# Altium footprint library PACKAGES_SO.PcbLib: 10 footprints
Each footprint in its own frame and in the unit in brackets; x right, y up, seen from the top. Pads: shape width x height; smd on the part's side, far side on the other; paste and mask are expansions set on the pad; w line width, h text height; cw(c..) or ccw(c..) is an arc to the next point about the centre after c.
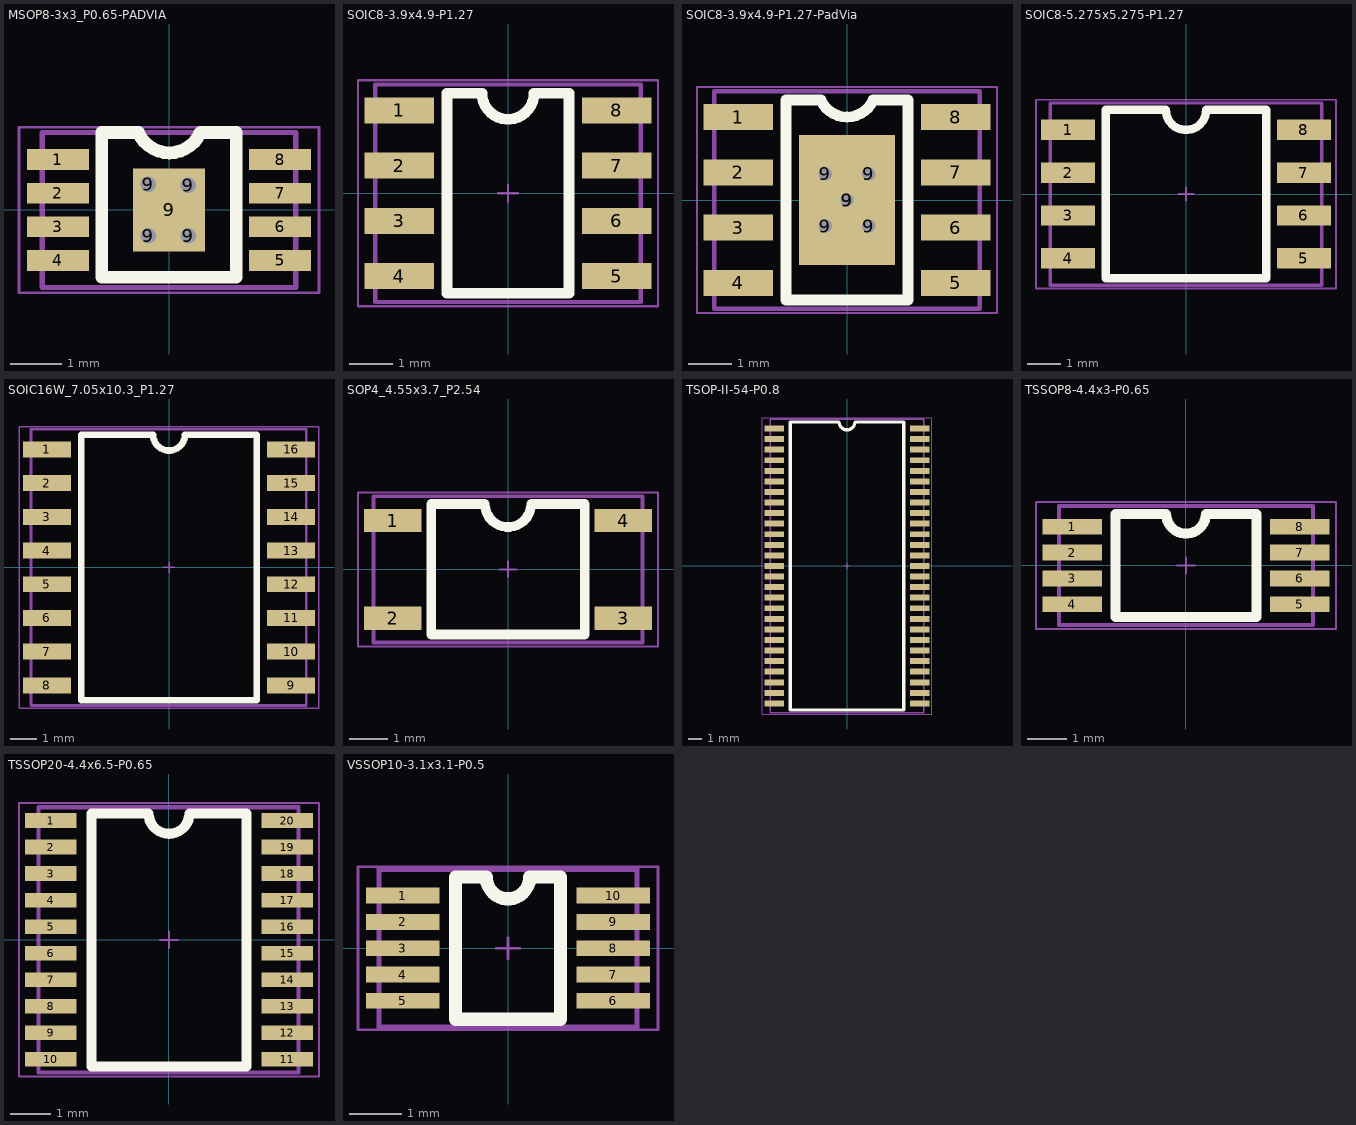
[diagram p0: the footprints below, top view; thin cyan lines are the x and y axes]

## MSOP8-3x3_P0.65-PADVIA [mm]
pads (13):
  rect 1.2x0.4 smd: 1(-2.15,0.975) 2(-2.15,0.325) 3(-2.15,-0.325) 4(-2.15,-0.975) 5(2.15,-0.975) 6(2.15,-0.325) 7(2.15,0.325) 8(2.15,0.975)
  round 0.6 hole 0.3 mask+0: 9(-0.4,-0.5) 9(-0.4,0.5) 9(0.375,-0.5) 9(0.375,0.475)
  rect 1.4x1.6 smd: 9(0,0)
Top Overlay:
  lines w0.25: -1.3,-1.3 1.3,-1.3 1.3,1.5 0.607,1.5 cw(c0.007,1.758) -0.593,1.5 -1.3,1.5 -1.3,-1.3
Mechanical 13:
  lines w0.1: -2.45,-1.5 -2.45,1.5 2.45,1.5 2.45,-1.5 -2.45,-1.5
Mechanical 15:
  lines w0.05: -0.225,0 0.225,0 ; 0,-0.2 0,0.2 ; -2.9,-1.6 2.9,-1.6 2.9,1.6 -2.9,1.6 -2.9,1.15 -2.9,0.95 -2.9,-1.6
3D body "MSOP-8_3x3mm_P0.65mm.step": height 0.95, standoff 0, extent -2.45,-1.5 2.45,1.5

## SOIC8-3.9x4.9-P1.27 [mm]
pads (8):
  rect 1.6x0.6 smd: 1(-2.5,1.905) 2(-2.5,0.635) 3(-2.5,-0.635) 4(-2.5,-1.905) 5(2.5,-1.905) 6(2.5,-0.635) 7(2.5,0.635) 8(2.5,1.905)
Top Overlay:
  lines w0.25: -1.4,-2.3 -1.4,2.3 -0.6,2.3 ccw(c0,2.3) 0.6,2.3 1.4,2.3 1.4,-2.3 -1.4,-2.3
Mechanical 13:
  lines w0.1: -3.05,-2.5 -3.05,2.5 3.05,2.5 3.05,-2.5 -3.05,-2.5
Mechanical 15:
  lines w0.05: -0.225,0 0.225,0 ; 0,-0.2 0,0.2 ; -3.45,-2.6 3.45,-2.6 3.45,2.6 -3.45,2.6 -3.45,-2.6
3D body "SOIC-8_3.9x4.9mm_P1.27mm.step": height 1.75, standoff 0, extent -3,-2.45 3,2.45

## SOIC8-3.9x4.9-P1.27-PadVia [mm]
pads (14):
  rect 1.6x0.6 smd: 1(-2.5,1.905) 2(-2.5,0.635) 3(-2.5,-0.635) 4(-2.5,-1.905) 5(2.5,-1.905) 6(2.5,-0.635) 7(2.5,0.635) 8(2.5,1.905)
  round 0.6 hole 0.3 mask+0: 9(-0.5,-0.6) 9(-0.5,0.6) 9(0,0) 9(0.5,-0.6) 9(0.5,0.6)
  rect 2.2x3 smd: 9(0,0)
Top Overlay:
  lines w0.25: -1.4,-2.3 1.4,-2.3 1.4,2.3 0.6,2.3 cw(c0,2.558) -0.6,2.3 -1.4,2.3 -1.4,-2.3
Mechanical 13:
  lines w0.1: -3.05,-2.5 3.05,-2.5 3.05,2.5 -3.05,2.5 -3.05,-2.5
Mechanical 15:
  lines w0.05: -0.225,0 0.225,0 ; 0,-0.2 0,0.2 ; -3.45,-2.6 -3.45,2.6 3.45,2.6 3.45,-2.6 -3.45,-2.6
3D body "SOIC-8_3.9x4.9mm_P1.27mm.step": height 1.75, standoff 0, extent -3,-2.45 3,2.45

## SOIC8-5.275x5.275-P1.27 [mm]
pads (8):
  rect 1.6x0.6 smd: 1(-3.5,1.905) 2(-3.5,0.635) 3(-3.5,-0.635) 4(-3.5,-1.905) 5(3.5,-1.905) 6(3.5,-0.635) 7(3.5,0.635) 8(3.5,1.905)
Top Overlay:
  lines w0.25: -2.375,-2.5 -2.375,2.5 -0.6,2.5 ccw(c0,2.5) 0.6,2.5 2.375,2.5 2.375,-2.5 -2.375,-2.5
Mechanical 13:
  lines w0.1: -4.025,-2.7 4.025,-2.7 4.025,2.7 -4,2.7 -4.025,2.7 -4.025,-2.7
Mechanical 15:
  lines w0.05: -0.225,0 0.225,0 ; 0,-0.2 0,0.2 ; -4.45,-2.8 4.45,-2.8 4.45,2.8 -4.45,2.8 -4.45,-2.8
3D body "SOIC-8_5.275x5.275mm_P1.27mm.step": height 2.05, standoff 0, extent -3.95,-2.638 3.95,2.638

## SOIC16W_7.05x10.3_P1.27 [mm]
pads (16):
  rect 1.8x0.6 smd: 1(-4.6,4.445) 2(-4.6,3.175) 3(-4.6,1.905) 4(-4.6,0.635) 5(-4.6,-0.635) 6(-4.6,-1.905) 7(-4.6,-3.175) 8(-4.6,-4.445) 9(4.6,-4.445) 10(4.6,-3.175) 11(4.6,-1.905) 12(4.6,-0.635) 13(4.6,0.635) 14(4.6,1.905) 15(4.6,3.175) 16(4.6,4.445)
Top Overlay:
  lines w0.25: -3.3,-5 3.3,-5 3.3,5 0.6,5 cw(c0,5) -0.6,5 -3.3,5 -3.3,-5
Mechanical 13:
  lines w0.1: -5.2,-5.2 5.166,-5.2 5.166,5.2 -5.2,5.2 -5.2,-5.2
Mechanical 15:
  lines w0.05: -0.225,0 0.225,0 ; 0,-0.2 0,0.2 ; -5.65,-5.3 5.65,-5.3 5.65,5.3 -5.65,5.3 -5.65,-5.3
3D body "SOIC-16W_7.5x10.3mm_P1.27mm.step": height 2.75, standoff 0, extent -5.15,-5.15 5.15,5.15

## SOP4_4.55x3.7_P2.54 [mm]
pads (4):
  rect 1.5x0.6 smd: 1(-3,1.27) 2(-3,-1.27) 3(3,-1.27) 4(3,1.27)
Top Overlay:
  lines w0.25: -2,-1.692 2,-1.692 2,1.7 0.6,1.7 cw(c0,1.7) -0.6,1.7 -2,1.7 -2,-1.692
Mechanical 13:
  lines w0.1: -3.5,-1.9 -3.5,1.9 3.5,1.9 3.5,-1.9 -3.5,-1.9
Mechanical 15:
  lines w0.05: -0.225,0 0.225,0 ; 0,-0.2 0,0.2 ; -3.9,-2 -3.9,1.275 -3.9,2 3.9,2 3.9,-2 -3.9,-2
3D body "SOP-4.step": height 2.2, standoff 0, extent -3.514,-1.9 3.514,1.9

## TSOP-II-54-P0.8 [mm]
pads (54):
  rect 1.5x0.45 smd: 1(-5.5,10.4) 2(-5.5,9.6) 3(-5.5,8.8) 4(-5.5,8) 5(-5.5,7.2) 6(-5.5,6.4) 7(-5.5,5.6) 8(-5.5,4.8) 9(-5.5,4) 10(-5.5,3.2) 11(-5.5,2.4) 12(-5.5,1.6) 13(-5.5,0.8) 14(-5.5,0) 15(-5.5,-0.8) 16(-5.5,-1.6) 17(-5.5,-2.4) 18(-5.5,-3.2) 19(-5.5,-4) 20(-5.5,-4.8) 21(-5.5,-5.6) 22(-5.5,-6.4) 23(-5.5,-7.2) 24(-5.5,-8) 25(-5.5,-8.8) 26(-5.5,-9.6) 27(-5.5,-10.4) 28(5.5,-10.4) 29(5.5,-9.6) 30(5.5,-8.8) 31(5.5,-8) 32(5.5,-7.2) 33(5.5,-6.4) 34(5.5,-5.6) 35(5.5,-4.8) 36(5.5,-4) 37(5.5,-3.2) 38(5.5,-2.4) 39(5.5,-1.6) 40(5.5,-0.8) 41(5.5,0) 42(5.5,0.8) 43(5.5,1.6) 44(5.5,2.4) 45(5.5,3.2) 46(5.5,4) 47(5.5,4.8) 48(5.5,5.6) 49(5.5,6.4) 50(5.5,7.2) 51(5.5,8) 52(5.5,8.8) 53(5.5,9.6) 54(5.5,10.4)
Top Overlay:
  lines w0.25: -4.3,-10.9 4.3,-10.9 4.3,10.9 0.6,10.9 cw(c0,10.9) -0.6,10.9 -4.3,10.9 -4.3,-10.9
Mechanical 13:
  lines w0.1: -5.825,-11.1 5.825,-11.1 5.825,11.1 -5.825,11.1 -5.825,-11.1
Mechanical 15:
  lines w0.05: -0.225,0 0.225,0 ; 0,-0.2 0,0.2 ; -6.4,-11.2 6.4,-11.2 6.4,11.2 -6.175,11.2 -6.4,11.2 -6.4,-11.2
3D body "TSOP-II-54_22.2x10.16mm_P0.8mm.step": height 1.6, standoff 0, extent -5.83,-11.1 5.83,11.1

## TSSOP8-4.4x3-P0.65 [mm]
pads (8):
  rect 1.5x0.4 smd: 1(-2.862,0.975) 2(-2.862,0.325) 3(-2.862,-0.325) 4(-2.862,-0.975) 5(2.863,-0.975) 6(2.863,-0.325) 7(2.863,0.325) 8(2.863,0.975)
Top Overlay:
  lines w0.25: -0.5,1.3 -1.775,1.3 -1.775,-1.3 1.775,-1.3 1.775,1.3 0.5,1.3
  lines w0.254: -0.5,1.3 ccw(c0,1.3) 0.5,1.3
Mechanical 13:
  lines w0.1: -3.2,-1.5 3.2,-1.5 3.2,1.5 -3.2,1.5 -3.2,-1.5
Mechanical 15:
  lines w0.05: -0.225,0 0.225,0 ; 0,-0.2 0,0.2 ; -3.775,-1.6 -3.775,1.6 3.775,1.6 3.775,-1.6 -3.775,-1.6
3D body "TSSOP-8_4.4x3mm_P0.65mm.step": height 1.1, standoff 0, extent -3.2,-1.5 3.2,1.5

## TSSOP20-4.4x6.5-P0.65 [mm]
pads (20):
  rect 1.26x0.36 smd: 1(-2.9,2.925) 2(-2.9,2.275) 3(-2.9,1.625) 4(-2.9,0.975) 5(-2.9,0.325) 6(-2.9,-0.325) 7(-2.9,-0.975) 8(-2.9,-1.625) 9(-2.9,-2.275) 10(-2.9,-2.925) 11(2.9,-2.925) 12(2.9,-2.275) 13(2.9,-1.625) 14(2.9,-0.975) 15(2.9,-0.325) 16(2.9,0.325) 17(2.9,0.975) 18(2.9,1.625) 19(2.9,2.275) 20(2.9,2.925)
Top Overlay:
  lines w0.25: 1.9,3.1 0.5,3.1 cw(c0,3.1) -0.5,3.1 -1.9,3.1 -1.9,-3.1 1.9,-3.1 1.9,3.1 ; 1.9,3.1 1.9,3.1
Mechanical 13:
  lines w0.1: -3.2,-3.25 3.175,-3.25 3.175,3.25 -3.2,3.25 -3.2,-3.25
Mechanical 15:
  lines w0.05: -0.225,0 0.225,0 ; 0,-0.2 0,0.2 ; -3.675,-3.35 3.675,-3.35 3.675,3.35 -3.675,3.35 -3.675,-3.35
3D body "TSSOP-20_4.4x6.5mm_P0.65mm.step": height 1.2, standoff 0, extent -3.2,-3.25 3.2,3.25

## VSSOP10-3.1x3.1-P0.5 [mm]
pads (10):
  rect 1.4x0.3 smd: 1(-2,1) 2(-2,0.5) 3(-2,0) 4(-2,-0.5) 5(-2,-1) 6(2,-1) 7(2,-0.5) 8(2,0) 9(2,0.5) 10(2,1)
Top Overlay:
  lines w0.25: -1,-1.35 1,-1.35 1,1.35 0.412,1.35 cw(c0,1.35) -0.412,1.35 -1,1.35 -1,-1.35
Mechanical 13:
  lines w0.1: -0.55,1.5 ccw(c0,1.5) 0.55,1.5 ; -2.45,-1.5 -2.45,1.5 2.45,1.5 2.45,-1.5 -2.45,-1.5
Mechanical 15:
  lines w0.05: -0.225,0 0.225,0 ; 0,-0.2 0,0.2 ; -2.85,-1.55 -2.85,1.55 -2.475,1.55 2.85,1.55 2.85,-1.55 -2.85,-1.55
3D body "VSSOP-10_3x3mm_P0.5mm.step": height 1.2, standoff 0, extent -2.45,-1.5 2.45,1.5